# EAGLE library part TLC59711 (library tlc59711)
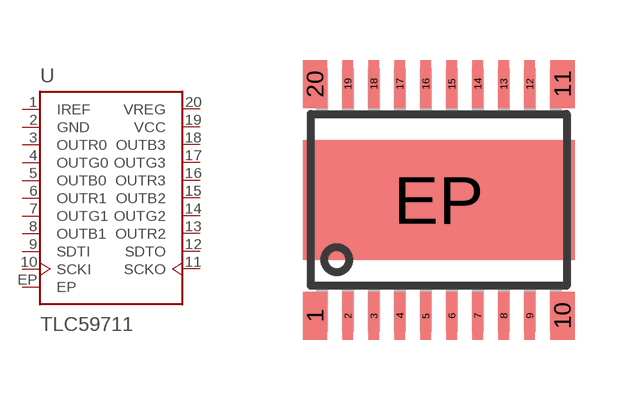
[diagram p0: symbol with the pads of HTSSOP20PWP; footprint HTSSOP20PWP]

Designator prefix U

## TLC59711PWP  [HTSSOP20PWP]
1  IREF  pas
2  GND  pwr
3  OUTR0  out
4  OUTG0  out
5  OUTB0  out
6  OUTR1  out
7  OUTG1  out
8  OUTB1  out
9  SDTI  in
10  SCKI  in
11  SCKO  out
12  SDTO  out
13  OUTR2  out
14  OUTG2  out
15  OUTB2  out
16  OUTR3  out
17  OUTG3  out
18  OUTB3  out
19  VCC  pwr
20  VREG  pwr
EP  EP  pwr

## Footprint HTSSOP20PWP (pad centres in mm)
TPS40055PWP (R-PDSO-G**) PowerPAD (TM) 20 pol. PLASTIC SMALL-OUTLINE PACKAGE Source: www.ti.com ... TPS40055 package.pdf & slma002.pdf
smd 0.61 x 1.2: 1 -3.095,-2.9; 10 3.095,-2.9; 11 3.095,2.9; 20 -3.095,2.9
smd 0.27 x 1.2: 2 -2.275,-2.9; 3 -1.625,-2.9; 4 -0.975,-2.9; 5 -0.325,-2.9; 6 0.325,-2.9; 7 0.975,-2.9; 8 1.625,-2.9; 9 2.275,-2.9; 12 2.275,2.9; 13 1.625,2.9; 14 0.975,2.9; 15 0.325,2.9; 16 -0.325,2.9; 17 -0.975,2.9; 18 -1.625,2.9; 19 -2.275,2.9
smd 6.8 x 3: EP 0,0